# Altium schematic symbol library LED_0805_BLUE.SchLib: 1 symbol
Pins are listed as number, name and electrical type; pins without a type are passive.

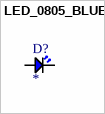
[diagram p0: symbol LED_0805_BLUE]

## LED_0805_BLUE
designator D?
20mA 260mcd Colorless Transparent Lens Positive Stick 460nm~475nm Blue 120° 70mW 3.2V 0805 LED Indication - Discrete ROHS; Manufacturer: XINGLIGHT; Manufacturer Part: XL-2012UBC; Forward Current: 20mA; Forward Voltage: 3.2V; ComponentLink1Description: Datasheet; ComponentLink1URL: https://www.lcsc.com/datasheet/lcsc_datasheet_2504101957_XINGLIGHT-XL-2012UBC_C965817.pdf
footprint LED_0805_BLUE
pins: 1, 2